# EAGLE library part MRF89XAM9A (library BaseApp)
Digikey No :- __MRF89XAM9A-I/RM-ND__
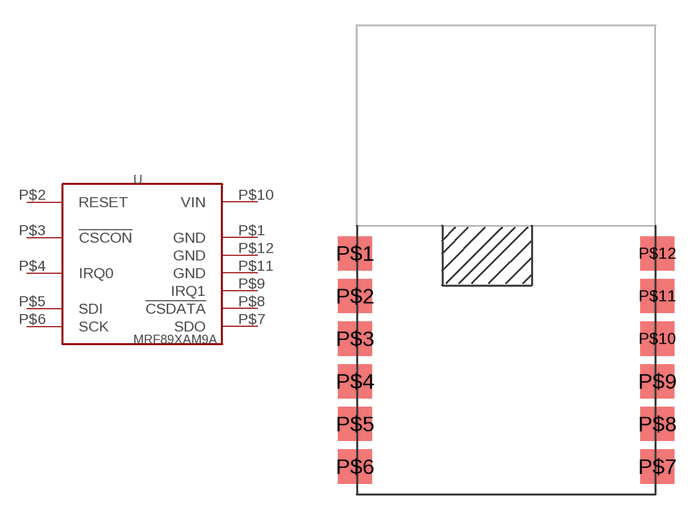
[diagram p130: symbol with the pads of MRF89XAM9A; footprint MRF89XAM9A]

Designator prefix -

## MRF89XAM9A  [MRF89XAM9A]
P$1  GND
P$2  RESET
P$3  !CSCON
P$4  IRQ0
P$5  SDI
P$6  SCK
P$7  SDO
P$8  !CSDATA
P$9  IRQ1
P$10  VIN
P$11  GND
P$12  GND

## Footprint MRF89XAM9A (pad centres in mm)
smd 2.032 x 2.032: P$1 -9,-1.27; P$2 -9,-3.81; P$3 -9,-6.35; P$4 -9,-8.89; P$5 -9,-11.43; P$6 -9,-13.97; P$7 9,-13.97; P$8 9,-11.43; P$9 9,-8.89; P$10 9,-6.35; P$11 9,-3.81; P$12 9,-1.27